# EAGLE library part TALKIE_LM4890 (library talkie)
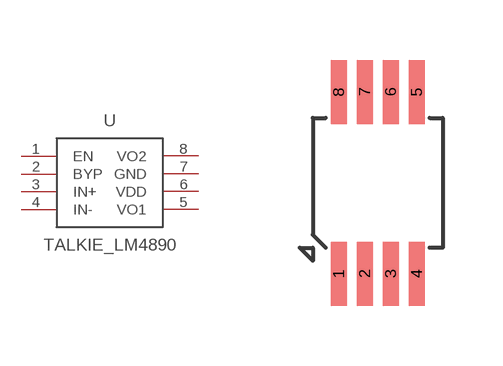
[diagram p6: symbol with the pads of TALKIE_8-MSOP; footprint TALKIE_8-MSOP]

Designator prefix -

## TALKIE_LM4890  [TALKIE_8-MSOP]
1  EN
2  BYP
3  IN+
4  IN-
5  VO1
6  VDD
7  GND
8  VO2

## Footprint TALKIE_8-MSOP (pad centres in mm)
smd 0.4 x 1.6: 1 -0.975,-2.275; 2 -0.325,-2.275; 3 0.325,-2.275; 4 0.975,-2.275; 5 0.975,2.275; 6 0.325,2.275; 7 -0.325,2.275; 8 -0.975,2.275